# Altium footprint library TL1963A-33DCYR.PcbLib: 3 footprints
Each footprint in its own frame and in the unit in brackets; x right, y up, seen from the top. Pads: shape width x height; smd on the part's side, far side on the other; paste and mask are expansions set on the pad; w line width, h text height; cw(c..) or ccw(c..) is an arc to the next point about the centre after c.
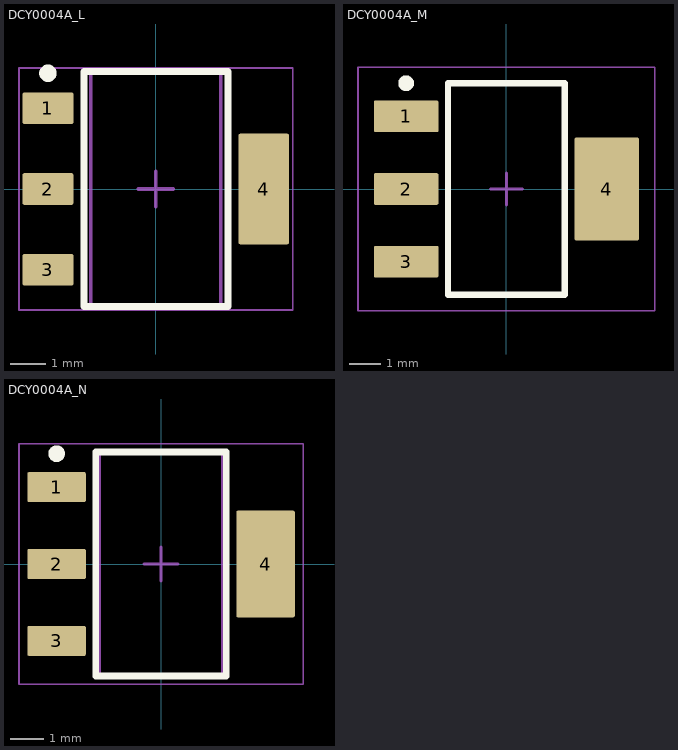
[diagram p0: the footprints below, top view; thin cyan lines are the x and y axes]

## DCY0004A_L [mm] "SOT223, 4-Leads, Body 6.7x3.7mm, Pitch 2.3mm, IPC High Density"
height 1.8
pads (4):
  rrect11% 1.45x0.9 smd: 1(-3.075,2.3) 2(-3.075,0) 3(-3.075,-2.3)
  rrect7% 1.45x3.15 smd: 4(3.075,0)
Top Overlay:
  circle w0.25: c-3.075,3.3 r0.125
  lines w0.2: -2.05,-3.35 -2.05,3.35 2.05,3.35 2.05,-3.35 -2.05,-3.35
Mechanical 1:
  text ".Designator" at -1.651,-0.381 h0.8
Mechanical 13:
  lines w0.1: -1.85,-3.35 -1.85,3.35 1.85,3.35 1.85,-3.35 -1.85,-3.35
Mechanical 15:
  lines w0.05: -3.9,-3.45 -3.9,3.45 3.9,3.45 3.9,-3.45 -3.9,-3.45
  lines w0.1: -0.5,0 0.5,0 ; 0,-0.5 0,0.5
3D body "SOT-223.stp": height 1.62, standoff -0.03, extent -3.5,-3.25 3.5,3.25

## DCY0004A_M [mm] "SOT223, 4-Leads, Body 6.7x3.7mm, Pitch 2.3mm, IPC Low Density"
height 1.8
pads (4):
  rrect10% 2.05x1 smd: 1(-3.175,2.3) 2(-3.175,0) 3(-3.175,-2.3)
  rrect5% 2.05x3.25 smd: 4(3.175,0)
Top Overlay:
  circle w0.25: c-3.175,3.35 r0.125
  lines w0.2: -1.85,-3.35 -1.85,3.35 1.85,3.35 1.85,-3.35 -1.85,-3.35
Mechanical 1:
  text ".Designator" at -1.651,-0.381 h0.8
Mechanical 13:
  lines w0.1: -1.85,-3.35 -1.85,3.35 1.85,3.35 1.85,-3.35 -1.85,-3.35
Mechanical 15:
  lines w0.05: -4.7,-3.85 -4.7,3.85 4.7,3.85 4.7,-3.85 -4.7,-3.85
  lines w0.1: -0.5,0 0.5,0 ; 0,-0.5 0,0.5
3D body "SOT-223.stp": height 1.62, standoff -0.03, extent -3.5,-3.25 3.5,3.25

## DCY0004A_N [mm] "SOT223, 4-Leads, Body 6.7x3.7mm, Pitch 2.3mm, IPC Medium Density"
height 1.8
pads (4):
  rrect11% 1.75x0.9 smd: 1(-3.125,2.3) 2(-3.125,0) 3(-3.125,-2.3)
  rrect6% 1.75x3.2 smd: 4(3.125,0)
Top Overlay:
  circle w0.25: c-3.125,3.3 r0.125
  lines w0.2: -1.95,-3.35 -1.95,3.35 1.95,3.35 1.95,-3.35 -1.95,-3.35
Mechanical 1:
  text ".Designator" at -1.651,-0.254 h0.8
Mechanical 13:
  lines w0.1: -1.85,-3.35 -1.85,3.35 1.85,3.35 1.85,-3.35 -1.85,-3.35
Mechanical 15:
  lines w0.05: -4.25,-3.6 -4.25,3.6 4.25,3.6 4.25,-3.6 -4.25,-3.6
  lines w0.1: -0.5,0 0.5,0 ; 0,-0.5 0,0.5
3D body "SOT-223.stp": height 1.62, standoff -0.03, extent -3.5,-3.25 3.5,3.25